# Altium footprint library SDR1005.PcbLib: 1 footprints
Each footprint in its own frame and in the unit in brackets; x right, y up, seen from the top. Pads: shape width x height; smd on the part's side, far side on the other; paste and mask are expansions set on the pad; w line width, h text height; cw(c..) or ccw(c..) is an arc to the next point about the centre after c.
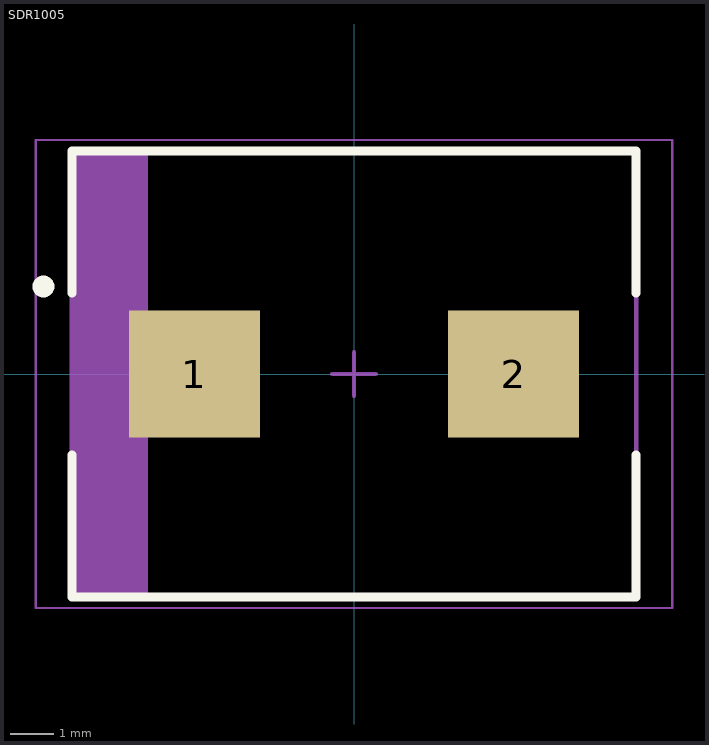
[diagram p0: the footprint, top view; thin cyan lines are the x and y axes]

## SDR1005 [mm] "Precision Wire Wound Inductor, 2-Leads, Body 12.70x10.00mm, IPC Medium Density"
height 5.3
pads (2):
  rect 3x2.9 smd: 1(-3.65,0) 2(3.65,0)
Top Overlay:
  circle w0.25: c-7.1,2 r0.125
  lines w0.2: -6.45,-1.85 -6.45,-5.1 6.45,-5.1 6.45,-1.85 ; -6.45,1.85 -6.45,5.1 6.45,5.1 6.45,1.85
Mechanical 13:
  rectangle: -6.45,-5.1 -4.715,5.1
  lines w0.1: -6.45,-5.1 6.45,-5.1 6.45,5.1 -6.45,5.1 -6.45,-5.1
Mechanical 15:
  lines w0.05: -7.275,-5.35 7.275,-5.35 7.275,5.35 -7.275,5.35 -7.275,-5.35
  lines w0.1: -0.5,0 0.5,0 ; 0,-0.5 0,0.5
3D body "SDR1005.step": height 5.4, standoff 0, extent -6.45,-5 6.45,5